# Altium footprint library 744771008.PcbLib: 1 footprints
Each footprint in its own frame and in the unit in brackets; x right, y up, seen from the top. Pads: shape width x height; smd on the part's side, far side on the other; paste and mask are expansions set on the pad; w line width, h text height; cw(c..) or ccw(c..) is an arc to the next point about the centre after c.
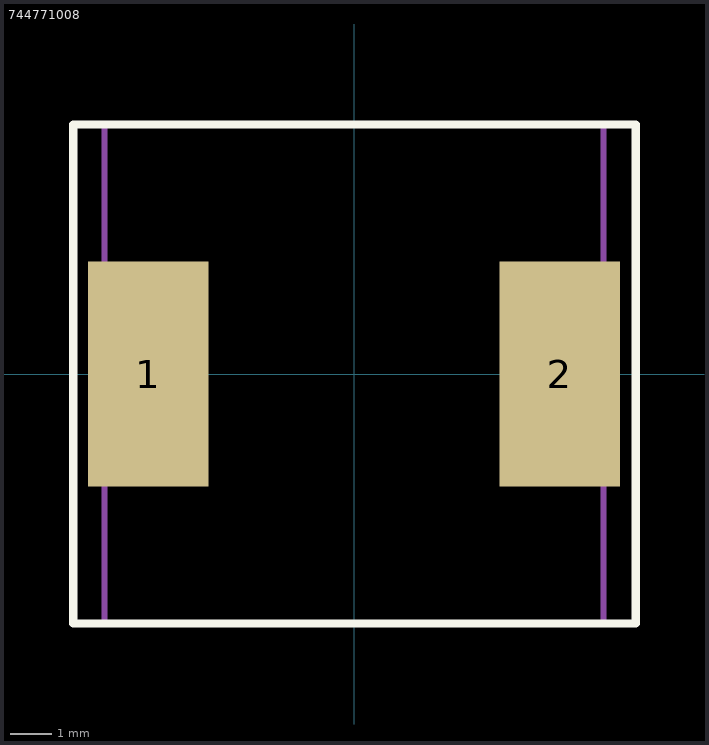
[diagram p0: the footprint, top view; thin cyan lines are the x and y axes]

## 744771008 [mm]
height 0.95
pads (2):
  rect 2.9x5.4 smd: 1(-4.95,0) 2(4.95,0)
Top Overlay:
  lines w0.2: -6.75,-6 -6.75,6 6.775,6 6.775,-6 -6.75,-6
Top Assembly:
  lines w0.15: -6,-6 6,-6 6,6 -6,6 -6,-6
  text "'.Designator'" at -0.675,-0.375 h0.8
3D body "744771008.stp": height 6, standoff 0, extent -6,-6 6,6